# Altium schematic symbol library BKRES_Schlib.SchLib: 38 symbols
Pins are listed as number, name and electrical type; pins without a type are passive.

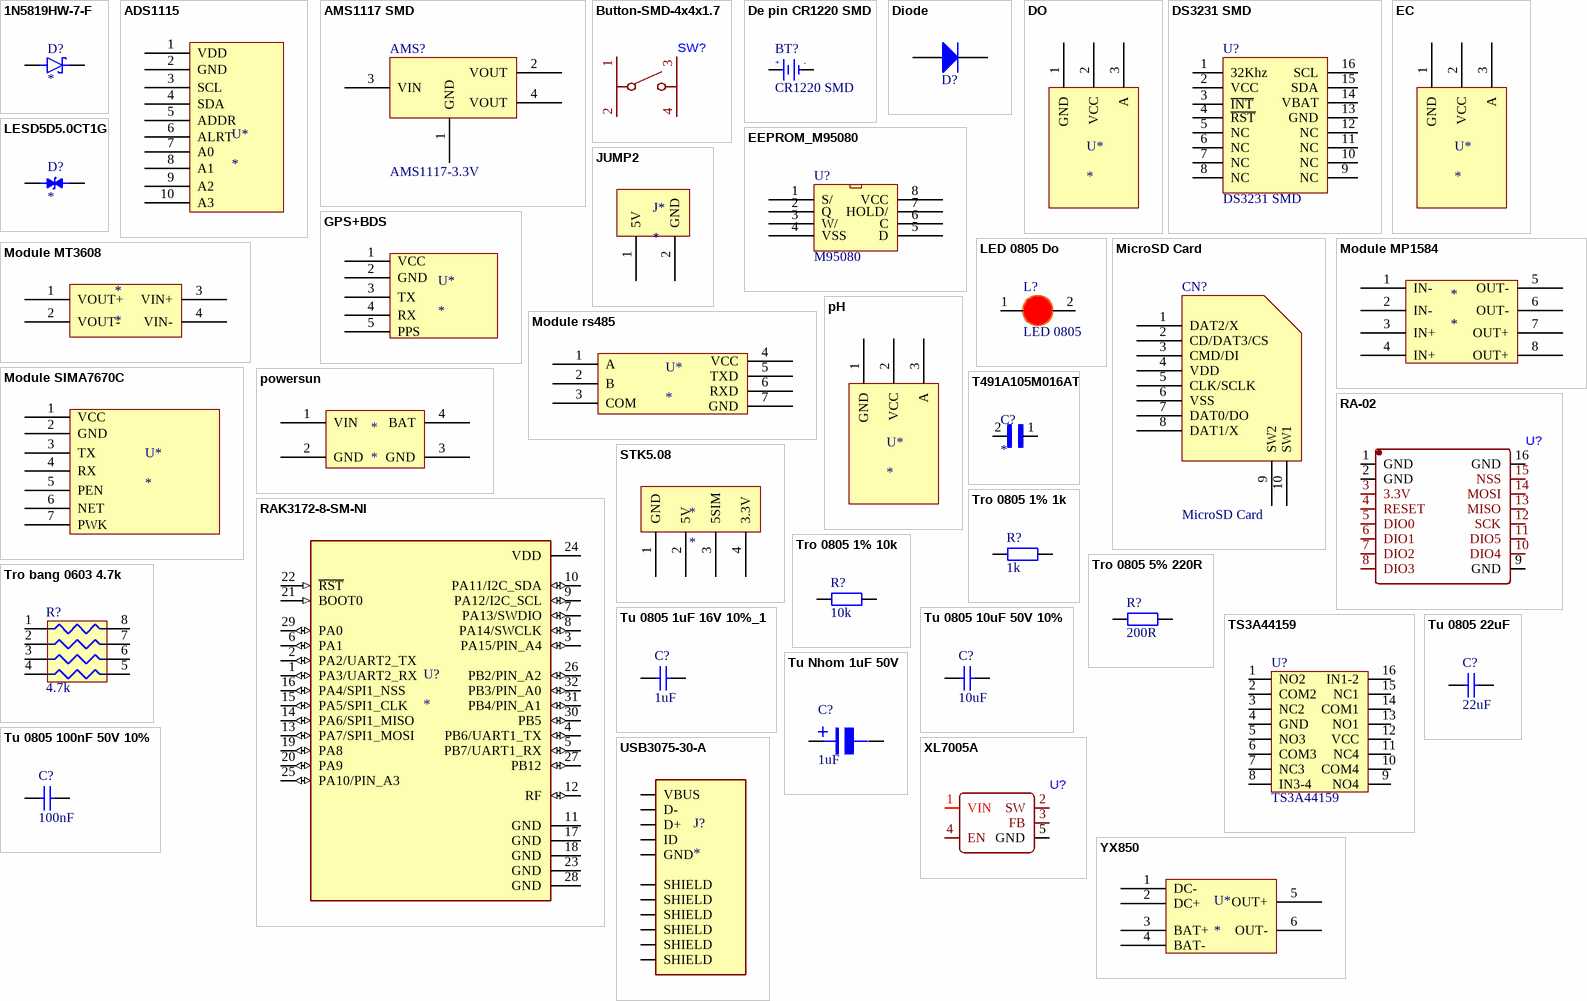
[diagram p0: symbols 1N5819HW-7-F to YX850]

## 1N5819HW-7-F
designator D?
Diode Schottky 40 V 1A Surface Mount SOD-123; MF: Diodes Inc.; MP: 1N5819HW-7-F; Value: *; SnapEDA_Link: https://www.snapeda.com/parts/1N5819HW-7-F/Diodes+Inc./view-part/?ref=snap; Purchase-URL: https://pricing.snapeda.com/search/part/1N5819HW-7-F/?ref=eda; Availability: In Stock; Price: None; Package: SOD-123 Fairchild Semiconductor; Check_prices: https://www.snapeda.com/parts/1N5819HW-7-F/Diodes+Inc./view-part/?ref=eda
footprint SOD3715X145N
pins: A, C K

## ADS1115
designator U*
footprint ADS1115
pins: 1 VDD, 2 GND, 3 SCL, 4 SDA, 5 ADDR, 6 ALRT, 7 A0, 8 A1, 9 A2, 10 A3

## AMS1117 SMD
designator AMS?, comment AMS1117-3.3V
Dán; Value: AMS1117-3.3V SOT223; Don_Vi: Con; Ma_Hang: MH000596; Ghi_Chu: *; Kieu_Chan: *; Chung_Loai: Dán
footprint SOT223
pins: 1 GND, 2 VOUT, 3 VIN, 4 VOUT

## Button-SMD-4x4x1.7
designator SW?
footprint SW-SMD_4P-L5.2-W5.2-P3.70-LS6.5
pins: 1, 2, 3, 4

## De pin CR1220 SMD
designator BT?, comment CR1220 SMD
Ten: Đế PIN CR1220 SMD; Ma_Hang: MH000833
footprint DE PIN CR1220
pins: 1 +3V, 2 GND
text: +; -

## Diode
designator D?  (value not drawn)
Default Diode; Published: 8-Jun-2000; LatestRevisionDate: 17-Jul-2002; LatestRevisionNote: Re-released for DXP Platform.; PackageVersion: Sep-1996; PackageReference: SMC; Publisher: Altium Limited; Code_JEDEC: DO-214-AB
footprint SOD80 (Diodes - General Purpose)
pins: 1 A, 2 K

## DO
designator U*
footprint DO
pins: 1 GND, 2 VCC, 3 A

## DS3231 SMD
designator U?
SOIC
footprint SOIC 16 (SOIC, 16-Leads, Body 10.30x7.50mm, Pitch 1.27mm, IPC Medium Density)
pins: 1 32Khz (power), 2 VCC (power), 3 ~{INT} (power), 4 ~{RST} (power), 5 NC (power), 6 NC (power), 7 NC (power), 8 NC (power), 9 NC (power), 10 NC (power), 11 NC (power), 12 NC (power), 13 GND (power), 14 VBAT (power), 15 SDA (power), 16 SCL (power)

## EC
designator U*
footprint EC
pins: 1 GND, 2 VCC, 3 A

## EEPROM_M95080
designator U?, comment M95080
EEPROM_M95080
footprint SOP8_L (SOIC, 8-Leads, Body 4.9x3.9mm, Pitch 1.27mm, IPC High Density)
pins: 1 S/ (power), 2 Q (power), 3 W/ (power), 4 VSS (power), 5 D (power), 6 C (power), 7 HOLD/ (power), 8 VCC (power)

## GPS+BDS
designator U*
footprint GPS+BDS
pins: 1 VCC, 2 GND, 3 TX, 4 RX, 5 PPS

## JUMP2
designator J*
footprint jump2
pins: 1 5V, 2 GND

## LED 0805 Do
designator L?, comment LED 0805
Dán; Don_Vi: Con; Ma_Hang: MH000897; Ten_Linh_Kien: LED 0805 Màu Đỏ (Red); Ghi_Chu: *; Kieu_Chan: *; Chung_Loai: Dán
footprint LED-0805-Red
pins: 1 A, 2 K

## LESD5D5.0CT1G
designator D?
Transient Voltage Suppressors for ESD Protection; MF: Leshan Radio Co.; MP: LESD5D5.0CT1G; Check_prices: https://www.snapeda.com/parts/LESD5D5.0CT1G/Leshan+Radio+Co./view-part/?ref=eda; Value: *; Availability: Not in stock; Package: None; SnapEDA_Link: https://www.snapeda.com/parts/LESD5D5.0CT1G/Leshan+Radio+Co./view-part/?ref=snap; Price: None
footprint TVS_LESD5D5.0CT1G
pins: 1, 2

## MicroSD Card
designator CN?
footprint MicroSD Card (Connector; SD Card Type A, SM, 9 Position, Right Angle, Pitch 2.5 mm, Body 23.3 x 27.4 x 3.4 mm (LxWxH))
pins: 1 DAT2/X, 2 CD/DAT3/CS, 3 CMD/DI, 4 VDD, 5 CLK/SCLK, 6 VSS, 7 DAT0/DO, 8 DAT1/X, 9 SW2, 10 SW1

## Module MP1584
designator *
MF: Espressif Systems; MP: ESP32 NODEMCU; SnapEDA_Link: https://www.snapeda.com/parts/ESP32%20NODEMCU/Espressif+Systems/view-part/?ref=snap; Package: Package; Value: *; Check_prices: https://www.snapeda.com/parts/ESP32%20NODEMCU/Espressif+Systems/view-part/?ref=eda
footprint module mP1584
pins: 1 IN-, 2 IN-, 3 IN+, 4 IN+, 5 OUT-, 6 OUT-, 7 OUT+, 8 OUT+

## Module MT3608
designator *
MF: Espressif Systems; MP: ESP32 NODEMCU; SnapEDA_Link: https://www.snapeda.com/parts/ESP32%20NODEMCU/Espressif+Systems/view-part/?ref=snap; Package: Package; Value: *; Check_prices: https://www.snapeda.com/parts/ESP32%20NODEMCU/Espressif+Systems/view-part/?ref=eda
footprint module mt3608
pins: 1 VOUT+, 2 VOUT-, 3 VIN+, 4 VIN-

## Module rs485
designator U*
footprint RS485
pins: 1 A, 2 B, 3 COM, 4 VCC, 5 TXD, 6 RXD, 7 GND

## Module SIMA7670C
designator U*
footprint Module sim7670C
pins: 1 VCC, 2 GND, 3 TX, 4 RX, 5 PEN, 6 NET, 7 PWK

## pH
designator U*
footprint pH
pins: 1 GND, 2 VCC, 3 A

## powersun
designator *
footprint power-sun
pins: 1 VIN, 2 GND, 3 GND, 4 BAT

## RA-02
designator U?
footprint RA-02
pins: 1 GND, 2 GND, 3 3.3V, 4 RESET, 5 DIO0, 6 DIO1, 7 DIO2, 8 DIO3, 9 GND, 10 DIO4, 11 DIO5, 12 SCK, 13 MISO, 14 MOSI, 15 NSS, 16 GND

## RAK3172-8-SM-NI
designator U?
RF IC Transceiver LoRaWAN 864MHz, 865MHz, 868MHz 2V ~ 3.6V Supply, Without IPEX Connector; MF: RAKwireless Technology Limited; MP: RAK3172-8-SM-NI; Package: None; Price: None; Check_prices: https://www.snapeda.com/parts/RAK3172-8-SM-NI/ESS+Technology/view-part/?ref=eda; Value: *; SnapEDA_Link: https://www.snapeda.com/parts/RAK3172-8-SM-NI/ESS+Technology/view-part/?ref=snap; Availability: In Stock; Purchase-URL: https://pricing.snapeda.com/search?q=RAK3172-8-SM-NI&ref=eda
footprint XCVR_RAK3172-8-SM-NI
pins: 1 PA3/UART2_RX (io), 2 PA2/UART2_TX (io), 3 PA15/PIN_A4 (io), 4 PB6/UART1_TX (io), 5 PB7/UART1_RX (io), 6 PA1 (io), 7 PA13/SWDIO (io), 8 PA14/SWCLK (io), 9 PA12/I2C_SCL (io), 10 PA11/I2C_SDA (io), 11 GND (power), 12 RF (io), 13 PA7/SPI1_MOSI (io), 14 PA6/SPI1_MISO (io), 15 PA5/SPI1_CLK (io), 16 PA4/SPI1_NSS (io), 17 GND (power), 18 GND (power), 19 PA8 (io), 20 PA9 (io), 21 BOOT0 (in), 22 ~{RST} (in), 23 GND (power), 24 VDD (power), 25 PA10/PIN_A3 (io), 26 PB2/PIN_A2 (io), 27 PB12 (io), 28 GND (power), 29 PA0 (io), 30 PB5 (io), 31 PB4/PIN_A1 (io), 32 PB3/PIN_A0 (io)

## STK5.08
designator *
footprint STK5.08
pins: 1 GND, 2 5V, 3 5SIM, 4 3.3V

## T491A105M016AT
designator C?
1ÂµF Molded Tantalum Capacitors 16V 1206 (3216 Metric) 10Ohm; MF: KEMET; MP: T491A105M016AT; Price: None; Value: *; Check_prices: https://www.snapeda.com/parts/T491A105M016AT/KEMET/view-part/1682847/?ref=eda; Package: 1206 KEMET; Availability: Good; SnapEDA_Link: https://www.snapeda.com/parts/T491A105M016AT/KEMET/view-part/1682847/?ref=snap; Purchase-URL: https://pricing.snapeda.com/search/part/T491A105M016AT/?ref=eda
footprint CAPC3216X110N
pins: 1, 2

## Tro 0805 1% 1k
designator R?, comment 1k
Dán; Don_Vi: Con; So_Chan: 2; Ten_Linh_Kien: Trở 0805 1% 1k; Ma_Hang: MH005468; Chung_Loai: Dán; Kieu_Chan: *
footprint tro smd 0805
pins: 1, 2

## Tro 0805 1% 10k
designator R?, comment 10k
Dán; Don_Vi: Con; So_Chan: 2; Ten_Linh_Kien: Trở 0805 10K; Ma_Hang: MH005468; Chung_Loai: Dán; Kieu_Chan: *
footprint tro smd 0805
pins: 1, 2

## Tro 0805 5% 220R
designator R?, comment 200R
Dán; Don_Vi: Con; So_Chan: 2; Ten_Linh_Kien: Trở 0805 5% 220R; Ma_Hang: MH005259; Chung_Loai: Dán; Kieu_Chan: *
footprint tro smd 0805
pins: 1, 2

## Tro bang 0603 4.7k
designator R?, comment 4.7k
Dán; Don_Vi: Con; So_Chan: 8; Ten_Linh_Kien: Trở băng 0603x4 4.7k; Ma_Hang: MH001448; Chung_Loai: Dán; Kieu_Chan: *
footprint tro bang 0603 4
pins: 1, 2, 3, 4, 5, 6, 7, 8

## TS3A44159
designator U?
footprint TSSOP16
pins: 1 NO2, 2 COM2, 3 NC2, 4 GND, 5 NO3, 6 COM3, 7 NC3, 8 IN3-4, 9 NO4, 10 COM4, 11 NC4, 12 VCC, 13 NO1, 14 COM1, 15 NC1, 16 IN1-2

## Tu 0805 1uF 16V 10%_1
designator C?, comment 1uF
Dán; Don_Vi: Con; So_Chan: 2; Ten_Linh_Kien: Tụ 0805 10uF 10% 50V; Ma_Hang: MH004551; Chung_Loai: Dán; Kieu_Chan: *
footprint tu 0805 (Compoment SMD 80x50mil)
pins: 1, 2

## Tu 0805 10uF 50V 10%
designator C?, comment 10uF
Dán; Don_Vi: Con; So_Chan: 2; Ten_Linh_Kien: Tụ 0805 10uF 10% 50V; Ma_Hang: MH004551; Chung_Loai: Dán; Kieu_Chan: *
footprint tu 0805 (Compoment SMD 80x50mil)
pins: 1, 2

## Tu 0805 22uF
designator C?, comment 22uF
Dán; Don_Vi: Con; So_Chan: 2; Ten_Linh_Kien: Tụ 0805 104-100nF 10% 50V; Ma_Hang: MH004551; Chung_Loai: Dán; Kieu_Chan: *
footprint tu 0805 (Compoment SMD 80x50mil)
pins: 1, 2

## Tu 0805 100nF 50V 10%
designator C?, comment 100nF
Dán; Don_Vi: Con; So_Chan: 2; Ten_Linh_Kien: Tụ 0805 104-100nF 10% 50V; Ma_Hang: MH004551; Chung_Loai: Dán; Kieu_Chan: *
footprint tu 0805 (Compoment SMD 80x50mil)
pins: 1, 2

## Tu Nhom 1uF 50V
designator C?, comment 1uF
Dán; Don_Vi: Con; So_Chan: 2; Ten_Linh_Kien: Tụ Nhôm 1uF 50V 4x5.4MM; Ma_Hang: MH007467; Chung_Loai: Dán; Kieu_Chan: *
footprint tu nhom 4 (B)
pins: 1, 2
text: +

## USB3075-30-A
designator J?
USB - micro B USB 2.0 Receptacle Connector 5 Position Surface Mount, Right Angle; Through Hole, 2.35mm profile, 5 Pins, Horizontal, Bottom mount; MF: Global Connector Technology; MP: USB3075-30-A; Check_prices: https://www.snapeda.com/parts/USB3075-30-A/Global+Connector+Technology/view-part/?ref=eda; Value: *; Availability: In Stock; Price: None; Package: None; SnapEDA_Link: https://www.snapeda.com/parts/USB3075-30-A/Global+Connector+Technology/view-part/?ref=snap
footprint GCT_USB3075-30-A
pins: 1 VBUS (power), 2 D- (io), 3 D+ (io), 4 ID (io), 5 GND (power), S1 SHIELD, S2 SHIELD, S3 SHIELD, S4 SHIELD, S5 SHIELD, S6 SHIELD

## XL7005A
designator U?
footprint XL7005A
pins: 1 VIN, 2 SW, 3 FB, 4 EN, 5 GND

## YX850
designator U*
footprint yx850
pins: 1 DC-, 2 DC+, 3 BAT+, 4 BAT-, 5 OUT+, 6 OUT-